# Altium footprint library RectangularConnectors.PcbLib: 154 footprints (part 3 of 10)
Each footprint in its own frame and in the unit in brackets; x right, y up, seen from the top. Pads: shape width x height; smd on the part's side, far side on the other; paste and mask are expansions set on the pad; w line width, h text height; cw(c..) or ccw(c..) is an arc to the next point about the centre after c.
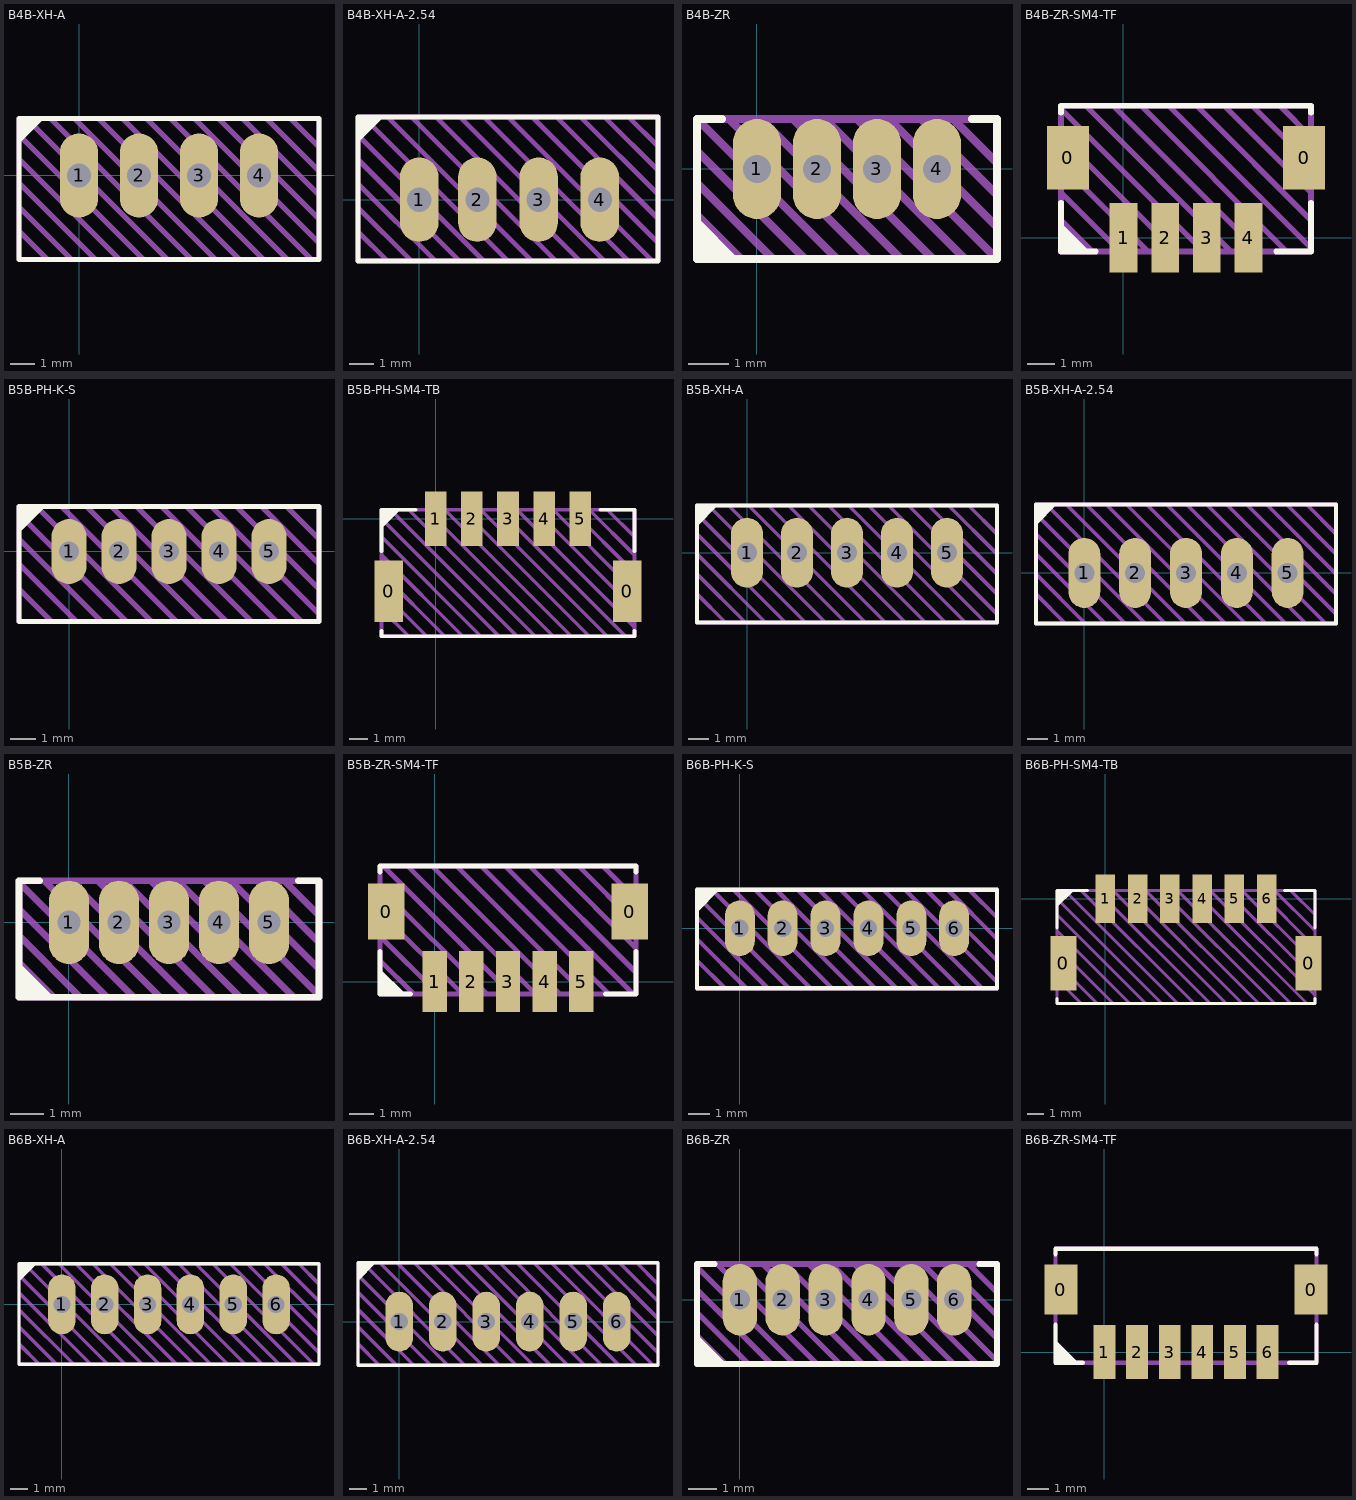
[diagram p2: the footprints below, top view; thin cyan lines are the x and y axes]

## B4B-XH-A [mm] "XH2.5 PTH Straight"
pads (4):
  oval 1.6x3.5 hole 1: 1(0,0) 2(2.5,0) 3(5,0) 4(7.5,0)
Top Overlay:
  region: -2.5,1.335 -1.46,2.375 -2.5,2.375
  lines w0.2: -2.5,-3.5 10,-3.5 10,2.375 -2.5,2.375 -2.5,-3.5
Top Draw:
  lines w0.2: -2.5,-2.313 -1.313,-3.5 ; -2.5,-1.313 -0.313,-3.5 ; -2.5,-0.313 0.687,-3.5 ; -2.5,0.687 1.687,-3.5 ; -2.5,1.687 2.687,-3.5 ; -2.188,2.375 3.687,-3.5 ; -1.188,2.375 4.687,-3.5 ; -0.188,2.375 5.687,-3.5 ; 0.813,2.375 6.687,-3.5 ; 1.813,2.375 7.688,-3.5 ; 2.813,2.375 8.688,-3.5 ; 3.813,2.375 9.688,-3.5 ; 4.813,2.375 10,-2.812 ; 5.813,2.375 10,-1.812 ; 6.813,2.375 10,-0.812 ; 7.813,2.375 10,0.188 ; 8.813,2.375 10,1.188 ; -2.5,-3.5 10,-3.5 10,2.375 -2.5,2.375 -2.5,-3.5
Top Info:
  text "'.Comment'" at -0.499,-4.958 h1
3D body "B4B-XH-A.step": height 7.02, standoff -3.48, extent -2.45,-3.4 9.95,2.35

## B4B-XH-A-2.54 [mm] "XH2.54 PTH Straight"
pads (4):
  oval 1.6x3.5 hole 1: 1(0,0) 2(2.413,0) 3(4.953,0) 4(7.493,0)
Top Overlay:
  region: -2.54,2.389 -1.5,3.429 -2.54,3.429
  lines w0.2: -2.54,-2.54 -2.54,3.429 9.906,3.429 9.906,-2.54 -2.54,-2.54
Top Draw:
  lines w0.2: -2.54,-1.333 -1.333,-2.54 ; -2.54,-0.333 -0.333,-2.54 ; -2.54,0.667 0.667,-2.54 ; -2.54,1.667 1.667,-2.54 ; -2.54,2.667 2.667,-2.54 ; -2.302,3.429 3.667,-2.54 ; -1.302,3.429 4.667,-2.54 ; -0.302,3.429 5.667,-2.54 ; 0.699,3.429 6.667,-2.54 ; 1.699,3.429 7.668,-2.54 ; 2.699,3.429 8.668,-2.54 ; 3.699,3.429 9.668,-2.54 ; 4.699,3.429 9.906,-1.778 ; 5.699,3.429 9.906,-0.778 ; 6.699,3.429 9.906,0.222 ; 7.699,3.429 9.906,1.222 ; 8.699,3.429 9.906,2.222 ; -2.54,-2.54 -2.54,3.429 9.906,3.429 9.906,-2.54 -2.54,-2.54
Top Info:
  text "'.Comment'" at -0.566,-4.012 h1
3D body "JST - XH - Thru (V) - 4Pin - 2.54mm.stp": height 7.21, standoff -3, extent -2.464,-2.489 9.83,3.353

## B4B-ZR [mm] "ZH1.5 PTH Straight"
pads (4):
  oval 1.2x2.5 hole 0.7: 1(0,0) 2(1.5,0) 3(3,0) 4(4.5,0)
Top Overlay:
  region: -0.46,-2.25 -1.5,-1.21 -1.5,-2.25
  lines w0.2: -0.875,1.25 -1.5,1.25 -1.5,-2.25 6,-2.25 6,1.25 5.375,1.25
Top Draw:
  lines w0.2: -1.5,-1.15 -0.4,-2.25 ; -1.5,-0.35 0.4,-2.25 ; -1.5,0.45 1.2,-2.25 ; -0.7,1.25 2.8,-2.25 ; 0.1,1.25 3.6,-2.25 ; 0.9,1.25 4.4,-2.25 ; 1.7,1.25 5.2,-2.25 ; 2,-2.25 -1.5,1.25 ; 2.5,1.25 6,-2.25 ; 3.3,1.25 6,-1.45 ; 4.1,1.25 6,-0.65 ; 4.9,1.25 6,0.15 ; -1.5,1.25 6,1.25 6,-2.25 ; -1.5,1.25 -1.5,-2.25 6,-2.25
Top Info:
  text "'.Comment'" at -0.936,-3.437 h0.75
3D body "B4B-ZR.step": height 4.52, standoff -2.68, extent -1.5,-2.2 6,1.3

## B4B-ZR-SM4-TF [mm] "ZH1.5 SMT Straight"
pads (6):
  rect 1.5x2.3 smd: 0(-2,2.875) 0(6.5,2.875)
  rect 1x2.5 smd: 1(0,0) 2(1.5,0) 3(3,0) 4(4.5,0)
Top Overlay:
  region: -1.21,-0.5 -2.25,0.54 -2.25,-0.5
  lines w0.2: -2.25,1.25 -2.25,-0.5 -1,-0.5 ; -2.25,4.5 -2.25,4.75 6.75,4.75 6.75,4.5 ; 5.5,-0.5 6.75,-0.5 6.75,1.25
Top Draw:
  lines w0.2: -2.25,0.625 -1.125,-0.5 ; -2.25,1.625 -0.125,-0.5 ; -2.25,2.625 0.875,-0.5 ; -2.25,3.625 1.875,-0.5 ; -2.25,4.625 2.875,-0.5 ; -1.375,4.75 3.875,-0.5 ; -0.375,4.75 4.875,-0.5 ; 0.625,4.75 5.875,-0.5 ; 1.625,4.75 6.75,-0.375 ; 2.625,4.75 6.75,0.625 ; 3.625,4.75 6.75,1.625 ; 4.625,4.75 6.75,2.625 ; 5.625,4.75 6.75,3.625 ; -2.25,-0.5 -2.25,4.75 6.75,4.75 6.75,-0.5 -2.25,-0.5
Top Info:
  text "'.Comment'" at -0.936,-2.437 h0.75
3D body "B4B-ZR-SM4-TF.step": height 5.02, standoff 0.02, extent -2.25,-0.5 6.75,4.7

## B5B-PH-K-S [mm] "PH2.0 PTH Straight"
pads (5):
  oval 1.4x2.6 hole 0.8: 1(0,0) 2(2,0) 3(4,0) 4(6,0) 5(8,0)
Top Overlay:
  region: -2,0.76 -0.96,1.8 -2,1.8
  lines w0.2: -2,-2.8 -2,1.8 10,1.8 10,-2.8 -2,-2.8
Top Draw:
  lines w0.2: -2,-1.5 -0.7,-2.8 ; -2,-0.5 0.3,-2.8 ; -2,0.5 1.3,-2.8 ; -2,1.5 2.3,-2.8 ; -1.3,1.8 3.3,-2.8 ; -0.3,1.8 4.3,-2.8 ; 0.7,1.8 5.3,-2.8 ; 1.7,1.8 6.3,-2.8 ; 2.7,1.8 7.3,-2.8 ; 3.7,1.8 8.3,-2.8 ; 4.7,1.8 9.3,-2.8 ; 5.7,1.8 10,-2.5 ; 6.7,1.8 10,-1.5 ; 7.7,1.8 10,-0.5 ; 8.7,1.8 10,0.5 ; -2,-2.8 -2,1.8 10,1.8 10,-2.8 -2,-2.8
Top Info:
  text "'.Comment'" at -0.249,-4.283 h1
3D body "B5B-PH-K-S.stp": height 6.02, standoff -3.38, extent -1.95,-2.8 9.95,1.8

## B5B-PH-SM4-TB [mm] "PH2.0 SMT Straight"
pads (7):
  rect 1.6x3.4 smd: 0(-2.6,-4) 0(10.6,-4)
  rect 1.2x3 smd: 1(0,0) 2(2,0) 3(4,0) 4(6,0) 5(8,0)
Top Overlay:
  region: -3,-0.54 -1.96,0.5 -3,0.5
  lines w0.2: -3,-6.2 -3,-6.5 11,-6.5 11,-6.2 ; -3,-1.8 -3,0.5 -1.1,0.5 ; 9.1,0.5 11,0.5 11,-1.8
Top Draw:
  lines w0.2: -3,-5 -1.5,-6.5 ; -3,-4 -0.5,-6.5 ; -3,-3 0.5,-6.5 ; -3,-2 1.5,-6.5 ; -3,-1 2.5,-6.5 ; -3,0 3.5,-6.5 ; -2.5,0.5 4.5,-6.5 ; -1.5,0.5 5.5,-6.5 ; -0.5,0.5 6.5,-6.5 ; 0.5,0.5 7.5,-6.5 ; 1.5,0.5 8.5,-6.5 ; 2.5,0.5 9.5,-6.5 ; 3.5,0.5 10.5,-6.5 ; 4.5,0.5 11,-6 ; 5.5,0.5 11,-5 ; 6.5,0.5 11,-4 ; 7.5,0.5 11,-3 ; 8.5,0.5 11,-2 ; 9.5,0.5 11,-1 ; -3,-6.5 -3,0.5 11,0.5 11,-6.5 -3,-6.5
Top Info:
  text "'.Comment'" at -0.249,-7.983 h1
3D body "B5B-PH-SM4-TB.step": height 6.62, standoff 0.02, extent -2.975,-6.5 10.975,0.5

## B5B-XH-A [mm] "XH2.5 PTH Straight"
pads (5):
  oval 1.6x3.5 hole 1: 1(0,0) 2(2.5,0) 3(5,0) 4(7.5,0) 5(10,0)
Top Overlay:
  region: -2.5,1.335 -1.46,2.375 -2.5,2.375
  lines w0.2: -2.5,-3.5 -2.5,2.375 12.5,2.375 12.5,-3.5 -2.5,-3.5
Top Draw:
  lines w0.2: -2.5,-2.063 -1.063,-3.5 ; -2.5,-1.063 -0.063,-3.5 ; -2.5,-0.063 0.937,-3.5 ; -2.5,0.937 1.937,-3.5 ; -2.5,1.937 2.937,-3.5 ; -1.938,2.375 3.937,-3.5 ; -0.938,2.375 4.937,-3.5 ; 0.062,2.375 5.937,-3.5 ; 1.062,2.375 6.937,-3.5 ; 2.063,2.375 7.938,-3.5 ; 3.063,2.375 8.938,-3.5 ; 4.063,2.375 9.938,-3.5 ; 5.063,2.375 10.938,-3.5 ; 6.063,2.375 11.938,-3.5 ; 7.063,2.375 12.5,-3.062 ; 8.063,2.375 12.5,-2.062 ; 9.063,2.375 12.5,-1.062 ; 10.063,2.375 12.5,-0.062 ; 11.063,2.375 12.5,0.938 ; -2.5,-3.5 -2.5,2.375 12.5,2.375 12.5,-3.5 -2.5,-3.5
Top Info:
  text "'.Comment'" at 0.751,-4.958 h1
3D body "B5B-XH-A.step": height 7.02, standoff -3.48, extent -2.45,-3.4 12.45,2.35

## B5B-XH-A-2.54 [mm] "XH2.54 PTH Straight"
pads (5):
  oval 1.6x3.5 hole 1: 1(0,0) 2(2.54,0) 3(5.08,0) 4(7.62,0) 5(10.16,0)
Top Overlay:
  region: -2.413,2.389 -1.373,3.429 -2.413,3.429
  lines w0.2: -2.413,-2.54 12.573,-2.54 12.573,3.429 -2.413,3.429 -2.413,-2.54
Top Draw:
  lines w0.2: -2.413,-1.063 -0.936,-2.54 ; -2.413,-0.063 0.064,-2.54 ; -2.413,0.937 1.064,-2.54 ; -2.413,1.937 2.064,-2.54 ; -2.413,2.937 3.064,-2.54 ; -1.905,3.429 4.064,-2.54 ; -0.905,3.429 5.064,-2.54 ; 0.095,3.429 6.064,-2.54 ; 1.095,3.429 7.064,-2.54 ; 2.095,3.429 8.064,-2.54 ; 3.096,3.429 9.065,-2.54 ; 4.096,3.429 10.065,-2.54 ; 5.096,3.429 11.065,-2.54 ; 6.096,3.429 12.065,-2.54 ; 7.096,3.429 12.573,-2.048 ; 8.096,3.429 12.573,-1.048 ; 9.096,3.429 12.573,-0.048 ; 10.096,3.429 12.573,0.952 ; 11.096,3.429 12.573,1.952 ; -2.413,-2.54 12.573,-2.54 12.573,3.429 -2.413,3.429 -2.413,-2.54
Top Info:
  text "'.Comment'" at 0.831,-4.012 h1
3D body "JST - XH - Thru (V) - 5Pin - 2.54mm.stp": height 7.21, standoff -3, extent -2.337,-2.489 12.497,3.353

## B5B-ZR [mm] "ZH1.5 PTH Straight"
pads (5):
  oval 1.2x2.5 hole 0.7: 1(0,0) 2(1.5,0) 3(3,0) 4(4.5,0) 5(6,0)
Top Overlay:
  region: -0.46,-2.25 -1.5,-1.21 -1.5,-2.25
  lines w0.2: -0.875,1.25 -1.5,1.25 -1.5,-2.25 7.5,-2.25 7.5,1.25 6.875,1.25
Top Draw:
  lines w0.2: -1.5,-1.2 -0.45,-2.25 ; -1.5,-0.4 0.35,-2.25 ; -1.5,0.4 1.15,-2.25 ; -1.5,1.2 1.95,-2.25 ; -0.75,1.25 2.75,-2.25 ; 0.05,1.25 3.55,-2.25 ; 0.85,1.25 4.35,-2.25 ; 1.65,1.25 5.15,-2.25 ; 2.45,1.25 5.95,-2.25 ; 3.25,1.25 6.75,-2.25 ; 4.05,1.25 7.5,-2.2 ; 4.85,1.25 7.5,-1.4 ; 5.65,1.25 7.5,-0.6 ; 6.45,1.25 7.5,0.2 ; -1.5,-2.25 7.5,-2.25 7.5,1.25 -1.5,1.25 -1.5,-2.25
Top Info:
  text "'.Comment'" at -0.186,-3.437 h0.75
3D body "B5B-ZR.step": height 4.52, standoff -2.68, extent -1.5,-2.2 7.5,1.3

## B5B-ZR-SM4-TF [mm] "ZH1.5 SMT Straight"
pads (7):
  rect 1.5x2.3 smd: 0(-2,2.875) 0(8,2.875)
  rect 1x2.5 smd: 1(0,0) 2(1.5,0) 3(3,0) 4(4.5,0) 5(6,0)
Top Overlay:
  region: -1.21,-0.5 -2.25,0.54 -2.25,-0.5
  lines w0.2: -2.25,1.25 -2.25,-0.5 -1,-0.5 ; -2.25,4.5 -2.25,4.75 8.25,4.75 8.25,4.5 ; 7,-0.5 8.25,-0.5 8.25,1.25
Top Draw:
  lines w0.2: -2.25,0.875 -0.875,-0.5 ; -2.25,1.875 0.125,-0.5 ; -2.25,2.875 1.125,-0.5 ; -2.25,3.875 2.125,-0.5 ; -2.125,4.75 3.125,-0.5 ; -1.125,4.75 4.125,-0.5 ; -0.125,4.75 5.125,-0.5 ; 0.875,4.75 6.125,-0.5 ; 1.875,4.75 7.125,-0.5 ; 2.875,4.75 8.125,-0.5 ; 3.875,4.75 8.25,0.375 ; 4.875,4.75 8.25,1.375 ; 5.875,4.75 8.25,2.375 ; 6.875,4.75 8.25,3.375 ; -2.25,-0.5 -2.25,4.75 8.25,4.75 8.25,-0.5 -2.25,-0.5
Top Info:
  text "'.Comment'" at -0.186,-2.437 h0.75
3D body "B5B-ZR-SM4-TF.step": height 5.02, standoff 0.02, extent -2.25,-0.5 8.25,4.7

## B6B-PH-K-S [mm] "PH2.0 PTH Straight"
pads (6):
  oval 1.4x2.6 hole 0.8: 1(0,0) 2(2,0) 3(4,0) 4(6,0) 5(8,0) 6(10,0)
Top Overlay:
  region: -2,0.76 -0.96,1.8 -2,1.8
  lines w0.2: -2,-2.8 -2,1.8 12,1.8 12,-2.8 -2,-2.8
Top Draw:
  lines w0.2: -2,-1.5 -0.7,-2.8 ; -2,-0.5 0.3,-2.8 ; -2,0.5 1.3,-2.8 ; -2,1.5 2.3,-2.8 ; -1.3,1.8 3.3,-2.8 ; -0.3,1.8 4.3,-2.8 ; 0.7,1.8 5.3,-2.8 ; 1.7,1.8 6.3,-2.8 ; 2.7,1.8 7.3,-2.8 ; 3.7,1.8 8.3,-2.8 ; 4.7,1.8 9.3,-2.8 ; 5.7,1.8 10.3,-2.8 ; 6.7,1.8 11.3,-2.8 ; 7.7,1.8 12,-2.5 ; 8.7,1.8 12,-1.5 ; 9.7,1.8 12,-0.5 ; 10.7,1.8 12,0.5 ; -2,-2.8 -2,1.8 12,1.8 12,-2.8 -2,-2.8
Top Info:
  text "'.Comment'" at 0.751,-4.283 h1
3D body "B6B-PH-K-S.stp": height 6.02, standoff -3.38, extent -1.95,-2.8 11.95,1.8

## B6B-PH-SM4-TB [mm] "PH2.0 SMT Straight"
pads (8):
  rect 1.6x3.4 smd: 0(-2.6,-4) 0(12.6,-4)
  rect 1.2x3 smd: 1(0,0) 2(2,0) 3(4,0) 4(6,0) 5(8,0) 6(10,0)
Top Overlay:
  region: -3,-0.54 -1.96,0.5 -3,0.5
  lines w0.2: -3,-6.2 -3,-6.5 13,-6.5 13,-6.2 ; -3,-1.8 -3,0.5 -1.1,0.5 ; 11.1,0.5 13,0.5 13,-1.8
Top Draw:
  lines w0.2: -3,-5 -1.5,-6.5 ; -3,-4 -0.5,-6.5 ; -3,-3 0.5,-6.5 ; -3,-2 1.5,-6.5 ; -3,-1 2.5,-6.5 ; -3,0 3.5,-6.5 ; -2.5,0.5 4.5,-6.5 ; -1.5,0.5 5.5,-6.5 ; -0.5,0.5 6.5,-6.5 ; 0.5,0.5 7.5,-6.5 ; 1.5,0.5 8.5,-6.5 ; 2.5,0.5 9.5,-6.5 ; 3.5,0.5 10.5,-6.5 ; 4.5,0.5 11.5,-6.5 ; 5.5,0.5 12.5,-6.5 ; 6.5,0.5 13,-6 ; 7.5,0.5 13,-5 ; 8.5,0.5 13,-4 ; 9.5,0.5 13,-3 ; 10.5,0.5 13,-2 ; 11.5,0.5 13,-1 ; -3,-6.5 13,-6.5 13,0.5 -3,0.5 -3,-6.5
Top Info:
  text "'.Comment'" at 0.751,-7.983 h1
3D body "B6B-PH-SM4-TB.step": height 6.62, standoff 0.02, extent -2.975,-6.5 12.975,0.5

## B6B-XH-A [mm] "XH2.5 PTH Straight"
pads (6):
  oval 1.6x3.5 hole 1: 1(0,0) 2(2.5,0) 3(5,0) 4(7.5,0) 5(10,0) 6(12.5,0)
Top Overlay:
  region: -2.5,1.335 -1.46,2.375 -2.5,2.375
  lines w0.2: -2.5,-3.5 15,-3.5 15,2.375 -2.5,2.375 -2.5,-3.5
Top Draw:
  lines w0.2: -2.5,-2.313 -1.313,-3.5 ; -2.5,-1.313 -0.313,-3.5 ; -2.5,-0.313 0.687,-3.5 ; -2.5,0.687 1.687,-3.5 ; -2.5,1.687 2.687,-3.5 ; -2.188,2.375 3.687,-3.5 ; -1.188,2.375 4.687,-3.5 ; -0.188,2.375 5.687,-3.5 ; 0.813,2.375 6.687,-3.5 ; 1.812,2.375 7.687,-3.5 ; 2.813,2.375 8.688,-3.5 ; 3.812,2.375 9.687,-3.5 ; 4.813,2.375 10.688,-3.5 ; 5.813,2.375 11.688,-3.5 ; 6.813,2.375 12.688,-3.5 ; 7.813,2.375 13.688,-3.5 ; 8.813,2.375 14.688,-3.5 ; 9.813,2.375 15,-2.812 ; 10.813,2.375 15,-1.812 ; 11.813,2.375 15,-0.812 ; 12.813,2.375 15,0.188 ; 13.813,2.375 15,1.188 ; -2.5,-3.5 15,-3.5 15,2.375 -2.5,2.375 -2.5,-3.5
Top Info:
  text "'.Comment'" at 2.001,-4.958 h1
3D body "B6B-XH-A.step": height 7.02, standoff -3.48, extent -2.45,-3.4 14.95,2.35

## B6B-XH-A-2.54 [mm] "XH2.54 PTH Straight"
pads (6):
  oval 1.6x3.5 hole 1: 1(0,0) 2(2.54,0) 3(5.08,0) 4(7.62,0) 5(10.16,0) 6(12.7,0)
Top Overlay:
  region: -2.413,2.389 -1.373,3.429 -2.413,3.429
  lines w0.2: -2.413,-2.54 15.113,-2.54 15.113,3.429 -2.413,3.429 -2.413,-2.54
Top Draw:
  lines w0.2: -2.413,-1.293 -1.166,-2.54 ; -2.413,-0.293 -0.166,-2.54 ; -2.413,0.707 0.834,-2.54 ; -2.413,1.707 1.834,-2.54 ; -2.413,2.707 2.834,-2.54 ; -2.135,3.429 3.834,-2.54 ; -1.135,3.429 4.834,-2.54 ; -0.135,3.429 5.834,-2.54 ; 0.865,3.429 6.834,-2.54 ; 1.865,3.429 7.834,-2.54 ; 2.866,3.429 8.835,-2.54 ; 3.865,3.429 9.834,-2.54 ; 4.866,3.429 10.835,-2.54 ; 5.866,3.429 11.835,-2.54 ; 6.866,3.429 12.835,-2.54 ; 7.866,3.429 13.835,-2.54 ; 8.866,3.429 14.835,-2.54 ; 9.866,3.429 15.113,-1.818 ; 10.866,3.429 15.113,-0.818 ; 11.866,3.429 15.113,0.182 ; 12.866,3.429 15.113,1.182 ; 13.866,3.429 15.113,2.182 ; -2.413,-2.54 15.113,-2.54 15.113,3.429 -2.413,3.429 -2.413,-2.54
Top Info:
  text "'.Comment'" at 2.101,-4.012 h1
3D body "JST - XH - Thru (V) - 6Pin - 2.54mm.stp": height 7.21, standoff -3, extent -2.337,-2.489 15.037,3.353

## B6B-ZR [mm] "ZH1.5 PTH Straight"
pads (6):
  oval 1.2x2.5 hole 0.7: 1(0,0) 2(1.5,0) 3(3,0) 4(4.5,0) 5(6,0) 6(7.5,0)
Top Overlay:
  region: -0.46,-2.25 -1.5,-1.21 -1.5,-2.25
  lines w0.2: -0.875,1.25 -1.5,1.25 -1.5,-2.25 9,-2.25 9,1.25 8.375,1.25
Top Draw:
  lines w0.2: -1.5,-1.25 -0.5,-2.25 ; -1.5,-0.45 0.3,-2.25 ; -1.5,0.35 1.1,-2.25 ; -1.5,1.15 1.9,-2.25 ; -0.8,1.25 2.7,-2.25 ; 0,1.25 3.5,-2.25 ; 0.8,1.25 4.3,-2.25 ; 1.6,1.25 5.1,-2.25 ; 2.4,1.25 5.9,-2.25 ; 3.2,1.25 6.7,-2.25 ; 4,1.25 7.5,-2.25 ; 4.8,1.25 8.3,-2.25 ; 5.6,1.25 9,-2.15 ; 6.4,1.25 9,-1.35 ; 7.2,1.25 9,-0.55 ; 8,1.25 9,0.25 ; -1.5,-2.25 -1.5,1.25 9,1.25 9,-2.25 -1.5,-2.25
Top Info:
  text "'.Comment'" at 0.564,-3.437 h0.75
3D body "B6B-ZR.step": height 4.52, standoff -2.68, extent -1.5,-2.2 9,1.3

## B6B-ZR-SM4-TF [mm] "ZH1.5 SMT Straight"
pads (8):
  rect 1.5x2.3 smd: 0(-2,2.875) 0(9.5,2.875)
  rect 1x2.5 smd: 1(0,0) 2(1.5,0) 3(3,0) 4(4.5,0) 5(6,0) 6(7.5,0)
Top Overlay:
  region: -1.21,-0.5 -2.25,0.54 -2.25,-0.5
  lines w0.2: -2.25,1.25 -2.25,-0.5 -1,-0.5 ; -2.25,4.5 -2.25,4.75 9.75,4.75 9.75,4.5 ; 8.5,-0.5 9.75,-0.5 9.75,1.25
Top Draw:
  lines w0.2: -2.25,-0.5 -2.25,4.75 9.75,4.75 9.75,-0.5 -2.25,-0.5
Top Info:
  text "'.Comment'" at 0.564,-2.437 h0.75
3D body "B6B-ZR-SM4-TF.step": height 5.02, standoff 0.02, extent -2.25,-0.5 9.75,4.7